# Altium footprint library SW_DS02-254-1L-04BE.PcbLib: 1 footprints
Each footprint in its own frame and in the unit in brackets; x right, y up, seen from the top. Pads: shape width x height; smd on the part's side, far side on the other; paste and mask are expansions set on the pad; w line width, h text height; cw(c..) or ccw(c..) is an arc to the next point about the centre after c.
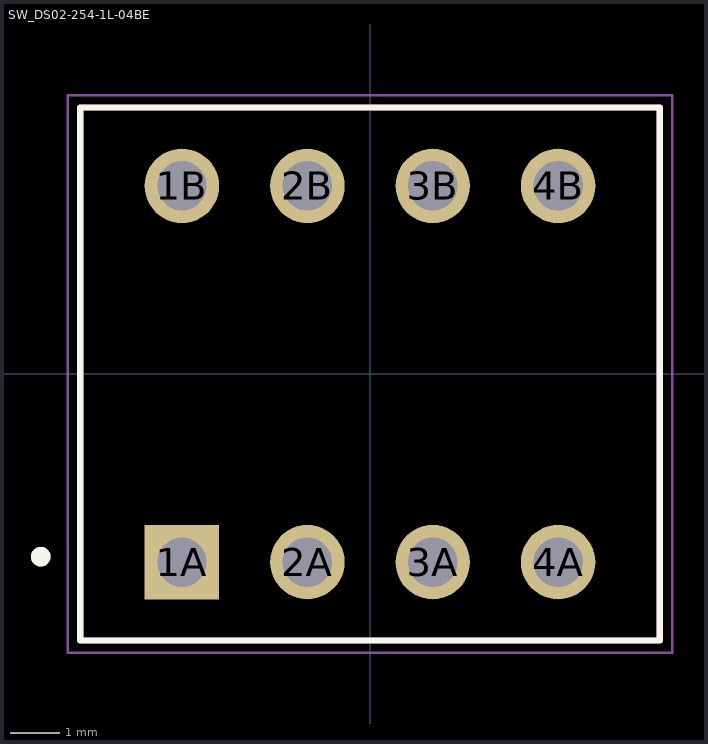
[diagram p0: the footprint, top view; thin cyan lines are the x and y axes]

## SW_DS02-254-1L-04BE [mm]
pads (8):
  rect 1.508x1.508 hole 1: 1A(-3.81,-3.81)
  round 1.508 hole 1: 1B(-3.81,3.81) 2A(-1.27,-3.81) 2B(-1.27,3.81) 3A(1.27,-3.81) 3B(1.27,3.81) 4A(3.81,-3.81) 4B(3.81,3.81)
Top Overlay:
  circle w0.2: c-6.67,-3.7 r0.1
  lines w0.127: -5.87,-5.4 -5.87,5.4 5.87,5.4 5.87,-5.4 -5.87,-5.4
Mechanical 13:
  circle w0.2: c-6.67,-3.7 r0.1
  lines w0.127: -5.87,-5.4 -5.87,5.4 5.87,5.4 5.87,-5.4 -5.87,-5.4
Mechanical 15:
  lines w0.05: -6.12,-5.65 6.12,-5.65 6.12,5.65 -6.12,5.65 -6.12,-5.65
3D body "CUI_DEVICES_DS02-254-1L-04BE.step": height 9.46, standoff -3.8, extent -5.867,-7.71 5.863,5.17